# EAGLE library part MAX6962 (library monome)
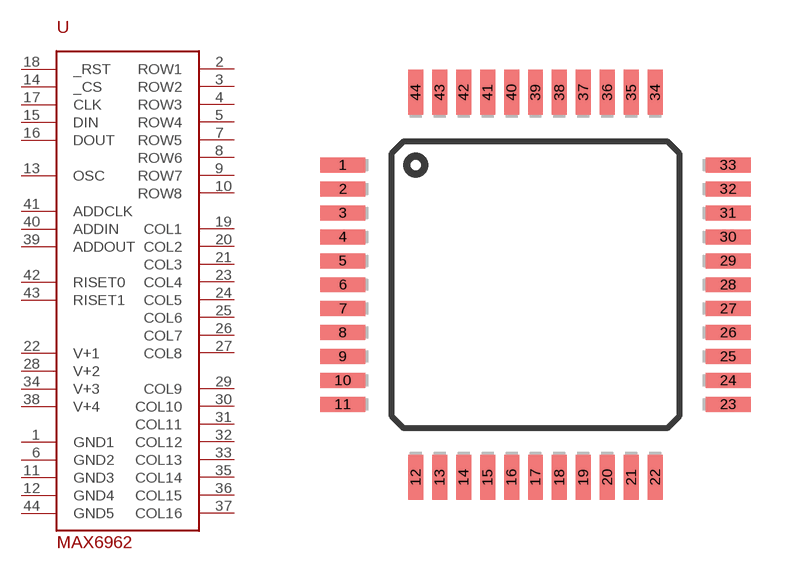
[diagram p4: symbol with the pads of MQFP44; footprint MQFP44]

Designator prefix -

## MAX6962  [MQFP44]
1  GND1  pwr
2  ROW1
3  ROW2
4  ROW3
5  ROW4
6  GND2  pwr
7  ROW5
8  ROW6
9  ROW7
10  ROW8
11  GND3  pwr
12  GND4  pwr
13  OSC
14  _CS
15  DIN
16  DOUT
17  CLK
18  _RST
19  COL1
20  COL2
21  COL3
22  V+1  pwr
23  COL4
24  COL5
25  COL6
26  COL7
27  COL8
28  V+2  pwr
29  COL9
30  COL10
31  COL11
32  COL12
33  COL13
34  V+3  pwr
35  COL14
36  COL15
37  COL16
38  V+4  pwr
39  ADDOUT
40  ADDIN
41  ADDCLK
42  RISET0
43  RISET1
44  GND5  pwr

## Footprint MQFP44 (pad centres in mm)
smd 1.5 x 0.5: 1 -6.435,4; 2 -6.435,3.2; 3 -6.435,2.4; 4 -6.435,1.6; 5 -6.435,0.8; 6 -6.435,0; 7 -6.435,-0.8; 8 -6.435,-1.6; 9 -6.435,-2.4; 10 -6.435,-3.2; 11 -6.435,-4; 23 6.435,-4; 24 6.435,-3.2; 25 6.435,-2.4; 26 6.435,-1.6; 27 6.435,-0.8; 28 6.435,0; 29 6.435,0.8; 30 6.435,1.6; 31 6.435,2.4; 32 6.435,3.2; 33 6.435,4
smd 0.5 x 1.5: 12 -4,-6.435; 13 -3.2,-6.435; 14 -2.4,-6.435; 15 -1.6,-6.435; 16 -0.8,-6.435; 17 0,-6.435; 18 0.8,-6.435; 19 1.6,-6.435; 20 2.4,-6.435; 21 3.2,-6.435; 22 4,-6.435; 34 4,6.435; 35 3.2,6.435; 36 2.4,6.435; 37 1.6,6.435; 38 0.8,6.435; 39 0,6.435; 40 -0.8,6.435; 41 -1.6,6.435; 42 -2.4,6.435; 43 -3.2,6.435; 44 -4,6.435